# EAGLE library part 12DY8 (library tubes_pmillett)
Triode plus Tetrode
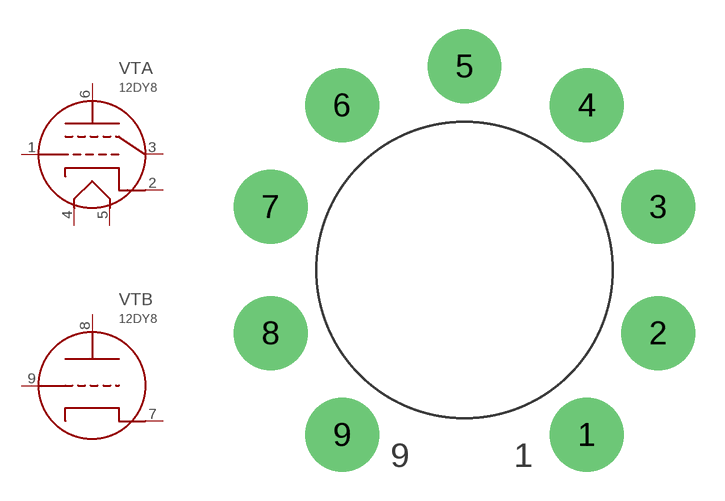
[diagram p13: symbol with the pads of NOVAL_PCB; footprint NOVAL_PCB]

Designator prefix VT; gates A=TETRODE_9JD B=TRIODE_9JD

## 12DY8  [NOVAL_PCB]
1  A:G1  pas
2  A:K  pas
3  A:G2  pas
4  A:F1  pas
5  A:F2  pas
6  A:P  pas
7  B:K  pas
8  B:P  pas
9  B:G1  pas

## Footprint NOVAL_PCB (pad centres in mm)
TUBE SOCKET, NOVAL PCB
drill 1.93 pad 3.81: 1 6.299,-8.484; 2 9.982,-3.251; 3 9.982,3.251; 4 6.299,8.484; 5 0,10.49; 6 -6.299,8.484; 7 -9.982,3.251; 8 -9.982,-3.251; 9 -6.299,-8.484